# Altium schematic symbol library BC640.SchLib: 1 symbol
Pins are listed as number, name and electrical type; pins without a type are passive.

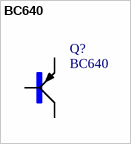
[diagram p0: symbol BC640]

## BC640
designator Q?
Bipolar _BJT_ Transistor PNP 80V 500mA 150MHz 625mW Through Hole TO-92-3; MF: ON Semiconductor; Package: TO-92 Continental Device; Price: None; MP: BC640; Availability: Unavailable; SnapEDA_Link: https://www.snapeda.com/parts/BC640/ON%20Semiconductor/view-part/2782146/?ref=snap; Value: *
footprint *SOT54D_BC640(Primary)
pins: B, C, E